# Altium schematic symbol library BTM7700G.SchLib: 1 symbol
Pins are listed as number, name and electrical type; pins without a type are passive.

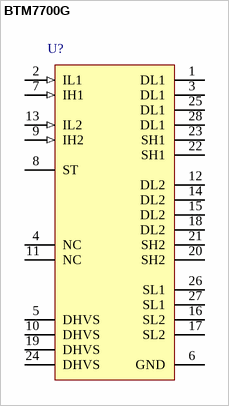
[diagram p0: symbol BTM7700G]

## BTM7700G
designator U?
TrilithIC, 4.8 to 42 V, -40 to 150 degC, PG-DSO-28-22, Reel, Green; Manufacturer: Infineon; PartNumber: BTM7700G; Green: TRUE; ID(lim): 9.5 A; ID(lim) (min): 5.5 A; Inhibit: FALSE; Iq (typ): 5 uA; Protect: OT, SC; RDS(on) (typ): 190 mOhm; VS (max): 42 V; DatasheetVersion: Rev. 1.0; PackageVersion: Jun-07; PackageReference: PG-DSO-28-22; PackageDescription: 28-Pin Plastic (Green) Dual Small Outline Package, 17.9 x 7.5 mm Body, 1.27 mm Pitch; Supplier 1: Digi-Key; Supplier Part Number 1: BTM7700GTR-ND; Supplier 2: Digi-Key; Supplier Part Number 2: BTM7700GCT-ND; Supplier 3: Digi-Key; Supplier Part Number 3: BTM7700GDKR-ND; Supplier 4: Mouser; Supplier Part Number 4: 726-BTM7700G; Group: TrilithIC; Halogen-free: TRUE; Operating Range: 4.8 to 42 V; Mounting Technology: Surface Mount; ComponentLink1Description: Manufacturer URL; ComponentLink1URL: http://www.infineon.com/; ComponentLink2Description: Datasheet; ComponentLink2URL: http://www.infineon.com/dgdl/BTM7700G_DS_10.pdf?folderId=db3a304412b407950112b408e8c90004&fileId=db3a304316f66ee80117642f65ef6a96&location=en.Products.Automotive_ICs.Motor_Drivers__Automotive_.Integrated_High_Current_Motor_Drivers__NovalithIC____Trilith_IC_.DATASHEET.BTM7700G_DS_10.pdf; ComponentLink3Description: Package Specification; ComponentLink3URL: http://www.infineon.com/dgdl/BTM7700G_DS_10.pdf?folderId=db3a304412b407950112b408e8c90004&fileId=db3a304316f66ee80117642f65ef6a96&sId=db3a30443d67b5ca013d81ef92182d8b
footprint INF-PG-DSO-28-22_N (SOP, 28-Leads, Body 17.9x7.5mm, Pitch 1.27mm, IPC Medium Density)
footprint INF-PG-DSO-28-22_L (SOP, 28-Leads, Body 17.9x7.5mm, Pitch 1.27mm, IPC High Density)
footprint INF-PG-DSO-28-22_M (SOP, 28-Leads, Body 17.9x7.5mm, Pitch 1.27mm, IPC Low Density)
pins: 1 DL1 (power) "Drain of low-side switch1, leadframe 1", 2 IL1 (in) "Analog input of low-side switch1", 3 DL1 (power) "Drain of low-side switch1, leadframe 1", 4 NC "not connected", 5 DHVS (power) "Drain of high-side switches and power supply voltage, leadframe 2", 6 GND (power) "Ground", 7 IH1 (in) "Digital input of high-side switch1", 8 ST (oc) "Status of high-side switches; open Drain output", 9 IH2 (in) "Digital input of high-side switch2", 10 DHVS (power) "Drain of high-side switches and power supply voltage, leadframe 2", 11 NC "not connected", 12 DL2 (power) "Drain of low-side switch2, leadframe 3", 13 IL2 (in) "Analog input of low-side switch2", 14 DL2 (power) "Drain of low-side switch2, leadframe 3", 15 DL2 (power) "Drain of low-side switch2, leadframe 3", 16 SL2 (power) "Source of low-side switch2", 17 SL2 (power) "Source of low-side switch2", 18 DL2 (power) "Drain of low-side switch2, leadframe 3", 19 DHVS (power) "Drain of high-side switches and power supply voltage, leadframe 2", 20 SH2 (power) "Source of high-side switch2", 21 SH2 (power) "Source of high-side switch2", 22 SH1 (power) "Source of high-side switch1", 23 SH1 (power) "Source of high-side switch1", 24 DHVS (power) "Drain of high-side switches and power supply voltage, leadframe 2", 25 DL1 (power) "Drain of low-side switch1, leadframe 1", 26 SL1 (power) "Source of low-side switch1", 27 SL1 (power) "Source of low-side switch1", 28 DL1 (power) "Drain of low-side switch1, leadframe 1"